# EAGLE library part SR4L002 (library SR4L002)
Antennas LTE 700-LTE 2400MHz Max RL -6dB Source: Datasheet <https://datasheet.datasheetarchive.com/originals/distributors/DKDS-11/219790.pdf>
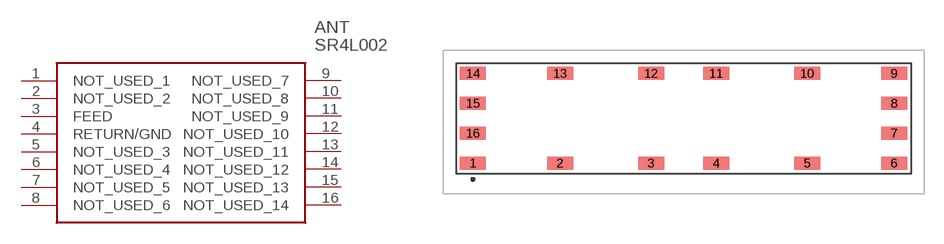
[diagram p0: symbol with the pads of SR4L002; footprint SR4L002]

Designator prefix ANT

## SR4L002 (Arrow_Part_Number: SR4L002; Arrow_Price-Stock: https://www.arrow.com/en/products/sr4l002/antenova?region=nac; Description: Antennas LTE 700-LTE 2400MHz Max RL -6dB; Height: 3mm; Manufacturer_Name: Antenova; Manufacturer_Part_Number: SR4L002; Mouser_Part_Number: 237-SR4L002; Mouser_Price-Stock: https://www.mouser.co.uk/ProductDetail/Antenova/SR4L002?qs=mKNKSX85ZJcu02A0ol1abw%3D%3D)  [SR4L002]
1  NOT_USED_1
2  NOT_USED_2
3  FEED
4  RETURN/GND
5  NOT_USED_3
6  NOT_USED_4
7  NOT_USED_5
8  NOT_USED_6
9  NOT_USED_7
10  NOT_USED_8
11  NOT_USED_9
12  NOT_USED_10
13  NOT_USED_11
14  NOT_USED_12
15  NOT_USED_13
16  NOT_USED_14

## Footprint SR4L002 (pad centres in mm)
SR4L002
smd 2 x 1: 1 -16.2,-3.175; 2 -9.5,-3.175; 3 -2.5,-3.175; 4 2.5,-3.175; 5 9.5,-3.175; 6 16.2,-3.175; 7 16.2,-0.875; 8 16.2,1.425; 9 16.2,3.725; 10 9.5,3.725; 11 2.5,3.725; 12 -2.5,3.725; 13 -9.5,3.725; 14 -16.2,3.725; 15 -16.2,1.425; 16 -16.2,-0.875